# Altium schematic symbol library SCH - MCU - STM32 - ST MICROELECTRONICS STM32L4P5CGTXP LQFP48.SchLib: 1 symbol
Pins are listed as number, name and electrical type; pins without a type are passive.

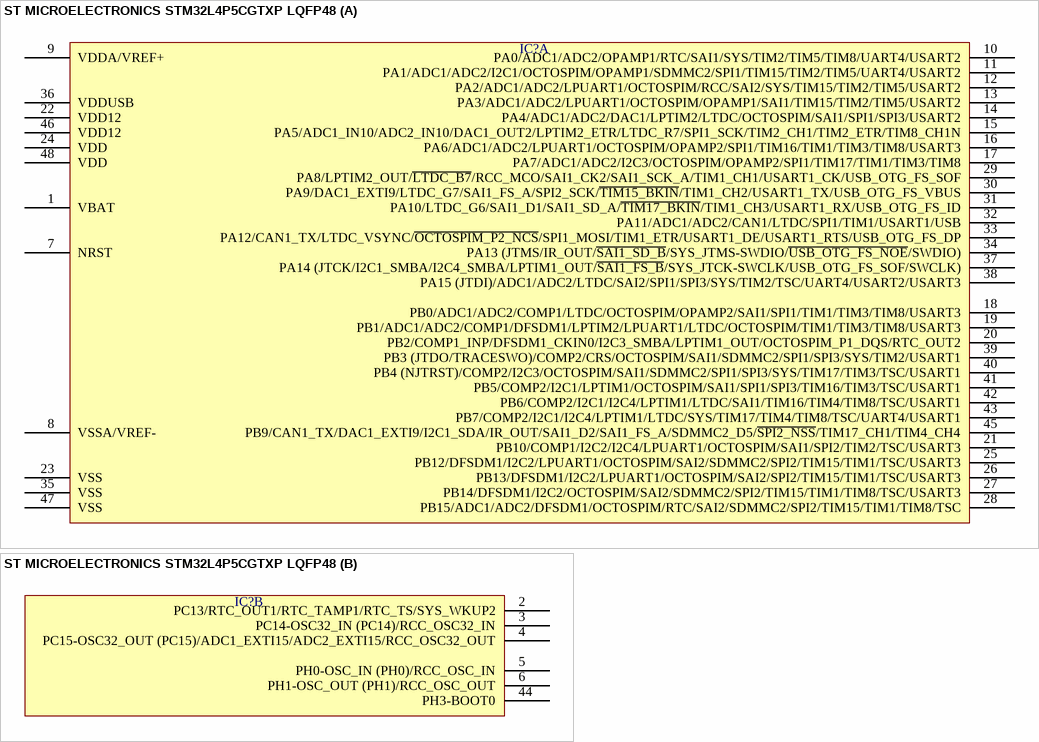
[diagram p0: symbol ST MICROELECTRONICS STM32L4P5CGTXP LQFP48]

## ST MICROELECTRONICS STM32L4P5CGTXP LQFP48
designator IC?  (value not drawn)
part A pins: 1 VBAT, 7 NRST, 8 VSSA/VREF-, 9 VDDA/VREF+, 10 PA0/ADC1/ADC2/OPAMP1/RTC/SAI1/SYS/TIM2/TIM5/TIM8/UART4/USART2, 11 PA1/ADC1/ADC2/I2C1/OCTOSPIM/OPAMP1/SDMMC2/SPI1/TIM15/TIM2/TIM5/UART4/USART2, 12 PA2/ADC1/ADC2/LPUART1/OCTOSPIM/RCC/SAI2/SYS/TIM15/TIM2/TIM5/USART2, 13 PA3/ADC1/ADC2/LPUART1/OCTOSPIM/OPAMP1/SAI1/TIM15/TIM2/TIM5/USART2, 14 PA4/ADC1/ADC2/DAC1/LPTIM2/LTDC/OCTOSPIM/SAI1/SPI1/SPI3/USART2, 15 PA5/ADC1_IN10/ADC2_IN10/DAC1_OUT2/LPTIM2_ETR/LTDC_R7/SPI1_SCK/TIM2_CH1/TIM2_ETR/TIM8_CH1N, 16 PA6/ADC1/ADC2/LPUART1/OCTOSPIM/OPAMP2/SPI1/TIM16/TIM1/TIM3/TIM8/USART3, 17 PA7/ADC1/ADC2/I2C3/OCTOSPIM/OPAMP2/SPI1/TIM17/TIM1/TIM3/TIM8, 18 PB0/ADC1/ADC2/COMP1/LTDC/OCTOSPIM/OPAMP2/SAI1/SPI1/TIM1/TIM3/TIM8/USART3, 19 PB1/ADC1/ADC2/COMP1/DFSDM1/LPTIM2/LPUART1/LTDC/OCTOSPIM/TIM1/TIM3/TIM8/USART3, 20 PB2/COMP1_INP/DFSDM1_CKIN0/I2C3_SMBA/LPTIM1_OUT/OCTOSPIM_P1_DQS/RTC_OUT2, 21 PB10/COMP1/I2C2/I2C4/LPUART1/OCTOSPIM/SAI1/SPI2/TIM2/TSC/USART3, 22 VDD12, 23 VSS, 24 VDD, 25 PB12/DFSDM1/I2C2/LPUART1/OCTOSPIM/SAI2/SDMMC2/SPI2/TIM15/TIM1/TSC/USART3, 26 PB13/DFSDM1/I2C2/LPUART1/OCTOSPIM/SAI2/SPI2/TIM15/TIM1/TSC/USART3, 27 PB14/DFSDM1/I2C2/OCTOSPIM/SAI2/SDMMC2/SPI2/TIM15/TIM1/TIM8/TSC/USART3, 28 PB15/ADC1/ADC2/DFSDM1/OCTOSPIM/RTC/SAI2/SDMMC2/SPI2/TIM15/TIM1/TIM8/TSC, 29 PA8/LPTIM2_OUT/~{LTDC_B7}/RCC_MCO/SAI1_CK2/SAI1_SCK_A/TIM1_CH1/USART1_CK/USB_OTG_FS_SOF, 30 PA9/DAC1_EXTI9/LTDC_G7/SAI1_FS_A/SPI2_SCK/~{TIM15_BKIN}/TIM1_CH2/USART1_TX/USB_OTG_FS_VBUS, 31 PA10/LTDC_G6/SAI1_D1/SAI1_SD_A/~{TIM17_BKIN}/TIM1_CH3/USART1_RX/USB_OTG_FS_ID, 32 PA11/ADC1/ADC2/CAN1/LTDC/SPI1/TIM1/USART1/USB, 33 PA12/CAN1_TX/LTDC_VSYNC/~{OCTOSPIM_P2_NCS}/SPI1_MOSI/TIM1_ETR/USART1_DE/USART1_RTS/USB_OTG_FS_DP, 34 PA13 (JTMS/IR_OUT/~{SAI1_SD_B}/SYS_JTMS-SWDIO/~{USB_OTG_FS_NOE}/SWDIO), 35 VSS, 36 VDDUSB, 37 PA14 (JTCK/I2C1_SMBA/I2C4_SMBA/LPTIM1_OUT/~{SAI1_FS_B}/SYS_JTCK-SWCLK/USB_OTG_FS_SOF/SWCLK), 38 PA15 (JTDI)/ADC1/ADC2/LTDC/SAI2/SPI1/SPI3/SYS/TIM2/TSC/UART4/USART2/USART3, 39 PB3 (JTDO/TRACESWO)/COMP2/CRS/OCTOSPIM/SAI1/SDMMC2/SPI1/SPI3/SYS/TIM2/USART1, 40 PB4 (NJTRST)/COMP2/I2C3/OCTOSPIM/SAI1/SDMMC2/SPI1/SPI3/SYS/TIM17/TIM3/TSC/USART1, 41 PB5/COMP2/I2C1/LPTIM1/OCTOSPIM/SAI1/SPI1/SPI3/TIM16/TIM3/TSC/USART1, 42 PB6/COMP2/I2C1/I2C4/LPTIM1/LTDC/SAI1/TIM16/TIM4/TIM8/TSC/USART1, 43 PB7/COMP2/I2C1/I2C4/LPTIM1/LTDC/SYS/TIM17/TIM4/TIM8/TSC/UART4/USART1, 45 PB9/CAN1_TX/DAC1_EXTI9/I2C1_SDA/IR_OUT/SAI1_D2/SAI1_FS_A/SDMMC2_D5/~{SPI2_NSS}/TIM17_CH1/TIM4_CH4, 46 VDD12, 47 VSS, 48 VDD
part B pins: 2 PC13/RTC_OUT1/RTC_TAMP1/RTC_TS/SYS_WKUP2, 3 PC14-OSC32_IN (PC14)/RCC_OSC32_IN, 4 PC15-OSC32_OUT (PC15)/ADC1_EXTI15/ADC2_EXTI15/RCC_OSC32_OUT, 5 PH0-OSC_IN (PH0)/RCC_OSC_IN, 6 PH1-OSC_OUT (PH1)/RCC_OSC_OUT, 44 PH3-BOOT0